# Altium schematic symbol library C_TANT_B(3528).SchLib: 1 symbol
Pins are listed as number, name and electrical type; pins without a type are passive.

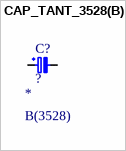
[diagram p0: symbol CAP_TANT_3528(B)]

## CAP_TANT_3528(B)
designator C?, comment ?  Package: B(3528)
CASE-B-3528-21(mm) Tantalum Capacitors ROHS; Manufacturer: *; Manufacturer Part: *; Value: ?; LCSC: *; Voltage: *
footprint C3528(B)
pins: 1, 2